# Altium schematic symbol library QUARTZ_2P.SchLib: 1 symbol
Pins are listed as number, name and electrical type; pins without a type are passive.

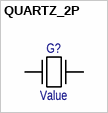
[diagram p0: symbol QUARTZ_2P]

## QUARTZ_2P
designator G?  (value not drawn)
crystall 2 pins; Value: Value
pins: 1, 2